# Altium schematic symbol library CC2350CC2531CC2540CC2541原理图封装.SCHLIB: 35 symbols
Pins are listed as number, name and electrical type; pins without a type are passive.

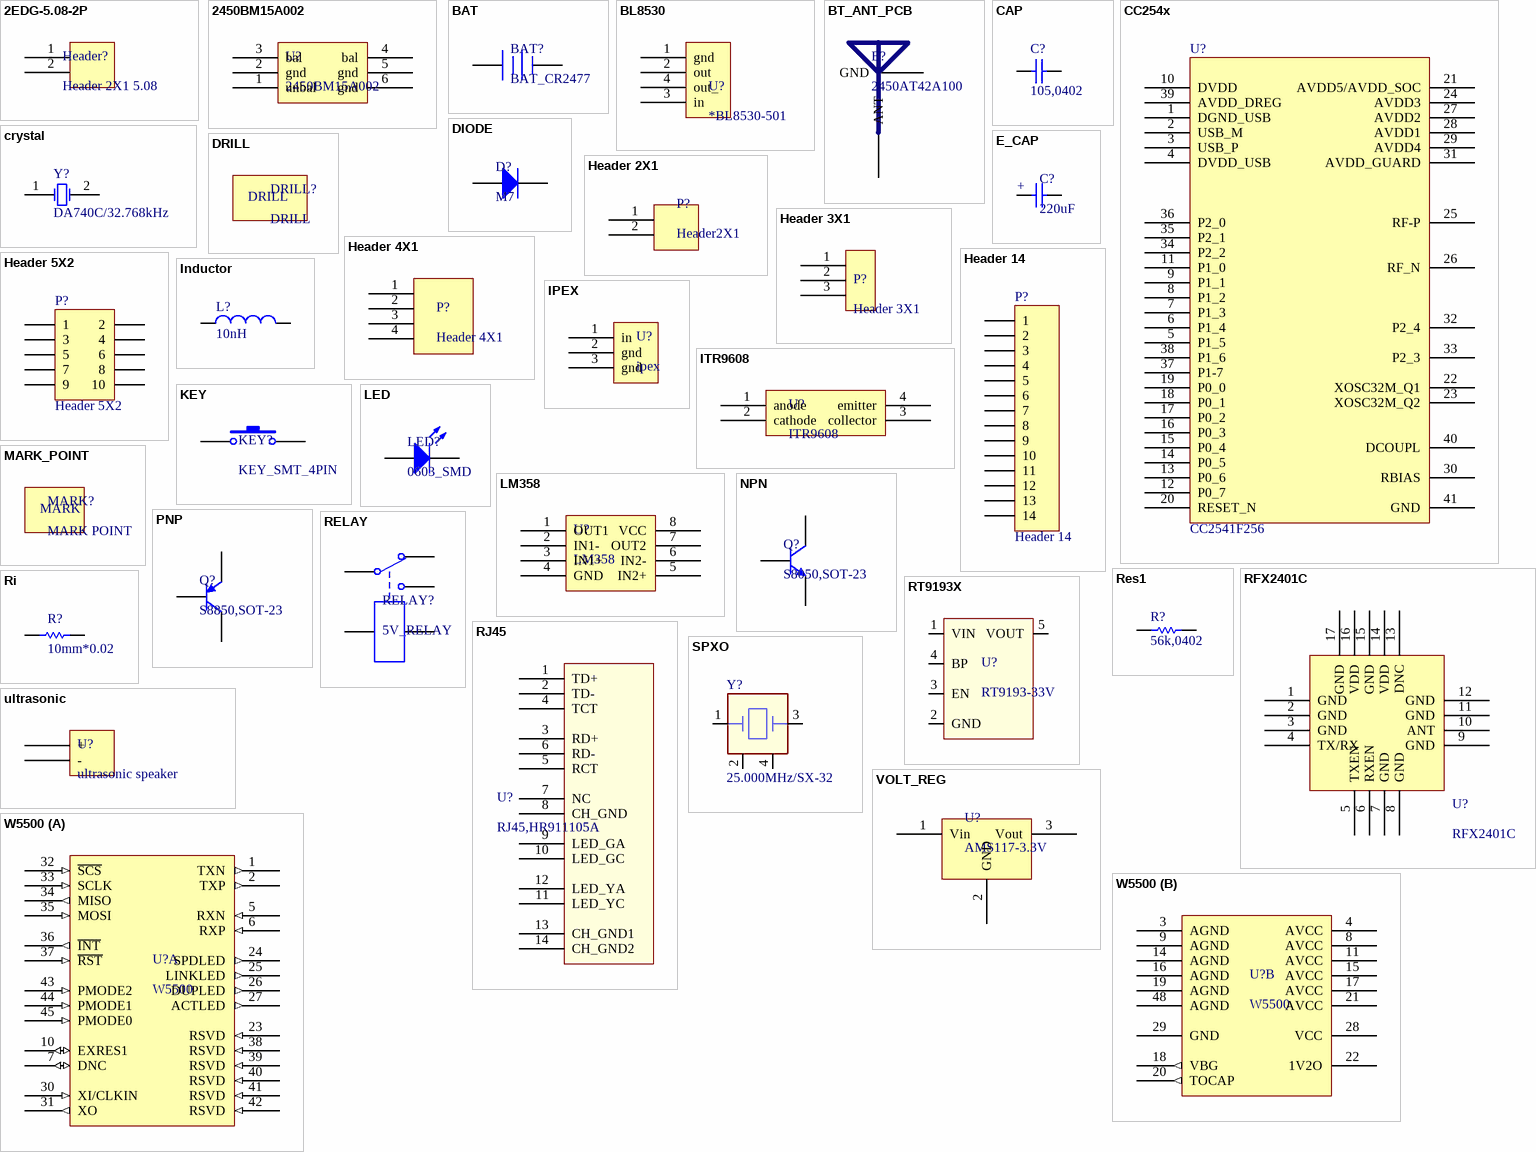
[diagram p0: symbols 2EDG-5.08-2P to W5500]

## 2EDG-5.08-2P
designator Header?, comment Header 2X1 5.08
footprint 2EDG-5.08-2P
pins: 1, 2

## 2450BM15A002
designator U?
footprint 2450BM15A002
pins: 1 unbal, 2 gnd, 3 bal, 4 bal, 5 gnd, 6 gnd

## BAT
designator BAT?, comment BAT_CR2477
CR2447; value: 3V
footprint CR2477
pins: 1 +, 2 -

## BL8530
designator U?, comment *BL8530-501
footprint SOT89-3
pins: 1 gnd, 2 out, 3 in, 4 out_

## BT_ANT_PCB
designator E?, comment 2450AT42A100
footprint BT_ANT_PCB
pins: 1 ANT, 2 GND

## CAP
designator C?, comment 105,0402
Capacitor; Value: 100nF; Published: 8-Jun-2000; Revision: July-2002: Re-released for DXP Platform.; Publisher: Altium Limited
footprint C0603
footprint C0402
footprint C0805
pins: 1, 2

## CC254x
designator U?, comment CC2541F256
TI cc2541F256; value: cc2541F256
footprint PQFP40
pins: 1 DGND_USB, 2 USB_M, 3 USB_P, 4 DVDD_USB, 5 P1_5, 6 P1_4, 7 P1_3, 8 P1_2, 9 P1_1, 10 DVDD, 11 P1_0, 12 P0_7, 13 P0_6, 14 P0_5, 15 P0_4, 16 P0_3, 17 P0_2, 18 P0_1, 19 P0_0, 20 RESET_N, 21 AVDD5/AVDD_SOC, 22 XOSC32M_Q1, 23 XOSC32M_Q2, 24 AVDD3, 25 RF-P, 26 RF_N, 27 AVDD2, 28 AVDD1, 29 AVDD4, 30 RBIAS, 31 AVDD_GUARD, 32 P2_4, 33 P2_3, 34 P2_2, 35 P2_1, 36 P2_0, 37 P1-7, 38 P1_6, 39 AVDD_DREG, 40 DCOUPL, 41 GND

## crystal
designator Y?, comment DA740C/32.768kHz
crystal; value: 32.768kHz
footprint 1206
pins: 1 OSC1, 2 OSC2

## DIODE
designator D?, comment M7
diode; value: M7
footprint DO214AC
pins: 1 A, 2 K

## DRILL
designator DRILL?
footprint DRILL_3MM
footprint DRILL_2MM

## E_CAP
designator C?, comment 220uF
electric capacitor; value: 47uF
footprint CDIP2
footprint 3216
pins: 1, 2
text: +

## Header 2X1
designator P?, comment Header2X1
Header,2-Pin
footprint HDR2X1
footprint HDR2X1_B
pins: 1, 2

## Header 3X1
designator P?
Header 3X1,3-Pin
footprint HDR3X1
pins: 1 "2", 2, 3 "2"

## Header 4X1
designator P?
Header,4-Pin
footprint HDR4X1
pins: 1, 2, 3, 4

## Header 5X2
designator P?
Header, 5-Pin, Dual row; LatestRevisionDate: 17-Jul-2002; LatestRevisionNote: Re-released for DXP Platform.; Publisher: Altium Limited
signal-integrity model Connector
footprint HDR2X5
pins: 1, 2, 3, 4, 5, 6, 7, 8, 9, 10

## Header 14
designator P?
Header, 14-Pin; LatestRevisionDate: 17-Jul-2002; LatestRevisionNote: Re-released for DXP Platform.; Publisher: Altium Limited
pins: 1, 2, 3, 4, 5, 6, 7, 8, 9, 10, 11, 12, 13, 14

## Inductor
designator L?, comment 10nH
Inductor; Code_IEC: 1005; Value: 100nH; Published: 8-Jun-2000; LatestRevisionDate: 17-Jul-2002; LatestRevisionNote: Re-released for DXP Platform.; PackageReference: 0402-A; Publisher: Altium Limited; Code_JEITA: 0402
footprint L0402
footprint L0603
footprint L0805
pins: 1, 2

## IPEX
designator U?, comment ipex
footprint IPEX
pins: 1 in, 2 gnd, 3 gnd

## ITR9608
designator U?
value: ITR9608
footprint DIP4
pins: 1 anode, 2 cathode, 3 collector, 4 emitter

## KEY
designator KEY?, comment KEY_SMT_4PIN
footprint KEY-SMT
pins: 1, 2

## LED
designator LED?, comment 0603_SMD
led
footprint LED0603
footprint LED0805
footprint LEDDIP2
pins: 1 A, 2 K

## LM358
designator U?
operational amplifier; value: LM358
footprint SOP-8
pins: 1 OUT1 "2", 2 IN1- "2", 3 IN1+ "2", 4 GND "2", 5 IN2+ "2", 6 IN2- "2", 7 OUT2 "2", 8 VCC "2"

## MARK_POINT
designator MARK?, comment MARK POINT
footprint MARK_POINT
text: MARK

## NPN
designator Q?, comment S8050,SOT-23
NPN transistor; value: s8050
footprint SOT23 (SOT-23; 3 Leads; Body 3.0 x 2.3 mm, inc. leads (LxW max))
pins: 1 B, 2 E, 3 C

## PNP
designator Q?, comment S8850,SOT-23
PNP transistor; value: S8550
footprint SOT23 (SOT-23; 3 Leads; Body 3.0 x 2.3 mm, inc. leads (LxW max))
pins: 1 B, 2 E, 3 C

## RELAY
designator RELAY?, comment 5V_RELAY
relay; value: 5V/10A250VAC/10A30VDC
footprint RELAY_5V_5PIN
pins: 1, 2, 3, 4, 5

## Res1
designator R?, comment 56k,0402
Resistor; value: 10k; Published: 8-Jun-2000; Revision: July-2002: Re-released for DXP Platform.; Publisher: Altium Limited
footprint R0402
footprint R0603
footprint R0805 (Chip Resistor, Body 2.0x1.2mm, IPC Medium Density)
pins: 1, 2
1 alternate drawing of the same symbol

## RFX2401C
designator U?
footprint QFN16
pins: 1 GND, 2 GND, 3 GND, 4 TX/RX, 5 TXEN, 6 RXEN, 7 GND, 8 GND, 9 GND, 10 ANT, 11 GND, 12 GND, 13 DNC, 14 VDD, 15 GND, 16 VDD, 17 GND

## Ri
designator R?, comment 10mm*0.02
footprint Ri (res for detect i)
pins: 1, 2

## RJ45
designator U?, comment RJ45,HR911105A
RJ45; value: HR9111105A
footprint RJ45; pin to pad 14>13
pins: 1 TD+, 2 TD-, 3 RD+, 4 TCT, 5 RCT, 6 RD-, 7 NC, 8 CH_GND, 9 LED_GA, 10 LED_GC, 11 LED_YC, 12 LED_YA, 13 CH_GND1, 14 CH_GND2

## RT9193X
designator U?, comment RT9193-33V
voltage regulator tube; value: RT9193-3.3V
footprint SOT-23-5
pins: 1 VIN (power), 2 GND (power), 3 EN, 4 BP, 5 VOUT (power)

## SPXO
designator Y?, comment 25.000MHz/SX-32
SPXO; value: 25MHz
footprint 1210
pins: 1, 2, 3, 4

## ultrasonic
designator U?, comment ultrasonic speaker
value: ultrasonic speaker
footprint ultrasonic
pins: 1 + "1", 2 - "2"

## VOLT_REG
designator U?, comment AMS117-3.3V
voltage regulator tube; value: ams1117-3.3V
footprint SOT252
footprint SOT223; pin to pad 1>3 2>1 3>2
pins: 1 Vin, 2 GND "Vin", 3 Vout "Vin"

## W5500
designator U?
value: W5500
footprint LQFP48
part A pins: 1 TXN (out), 2 TXP (out), 5 RXN (in), 6 RXP (in), 7 DNC (io), 10 EXRES1 (io), 23 RSVD (in), 24 SPDLED (out), 25 LINKLED (out), 26 DUPLED (out), 27 ACTLED (out), 30 XI/CLKIN (in), 31 XO (out), 32 ~{SCS} (in), 33 SCLK (in), 34 MISO (out), 35 MOSI (in), 36 ~{INT} (out), 37 ~{RST} (in), 38 RSVD (in), 39 RSVD (in), 40 RSVD (in), 41 RSVD (in), 42 RSVD (in), 43 PMODE2 (in), 44 PMODE1 (in), 45 PMODE0 (in)
part B pins: 3 AGND (power), 4 AVCC (power), 8 AVCC (power), 9 AGND (power), 11 AVCC (power), 14 AGND (power), 15 AVCC (power), 16 AGND (power), 17 AVCC (power), 18 VBG (out), 19 AGND (power), 20 TOCAP (out), 21 AVCC (power), 22 1V2O (power), 28 VCC (power), 29 GND (power), 48 AGND (power)